# Altium schematic symbol library SCH - BATTERY - KEYSTONE 3034TR.SCHLIB: 1 symbol
Pins are listed as number, name and electrical type; pins without a type are passive.

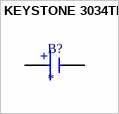
[diagram p0: symbol KEYSTONE 3034TR]

## KEYSTONE 3034TR
designator B?
pins: 1 +, 2 -